# Altium schematic symbol library Inductors (B82559B_A027).SchLib: 1 symbol
Pins are listed as number, name and electrical type; pins without a type are passive.

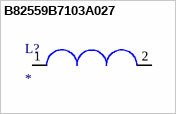
[diagram p0: symbol B82559B7103A027]

## B82559B7103A027
designator L?
Value: 10 uH; Tolerance: ±10%; Saturation current: 34.8A; Temperature range: -40 to +150 °C
footprint B82559B_A027
pins: 1, 2